# Altium integrated library TE RF and Coax Connectors.IntLib: 4 symbols
Pins are listed as number, name and electrical type; pins without a type are passive.

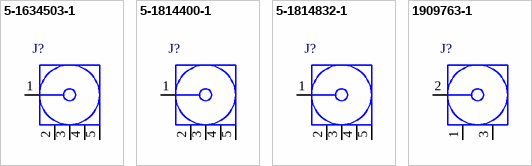
[diagram p0: symbols 5-1634503-1 to 1909763-1]

## 5-1634503-1
designator J?
Female Header, Pitch 3.13 mm, Height 13.7 mm, Tail Length 4.5 mm, -55 to 85 degC, RoHS, Bulk; SVHC: No SVHC (15-Jun-2015); Connector Mounting: PCB Mount; Coaxial Termination: Solder; Frequency Max: 2GHz; Connector Type: BNC Coaxial; Connector Body Style: Straight Jack; Impedance: 50ohm; DatasheetVersion: Rev. E; PackageReference: THD; PackageDescription: Female Header, Pitch 3.13 mm, Height 13.7 mm, Tail Length 4.5 mm; Supplier 1: Digi-Key; Supplier Part Number 1: A97581-ND; Product Range: -; Contact Material: Brass; Contact Plating: Gold Plated Contacts; Coaxial Cable Types: -; Mounting Technology: Through Hole; ComponentLink1Description: Manufacturer URL; ComponentLink1URL: http://www.te.com; ComponentLink2Description: Datasheet; ComponentLink2URL: http://www.mouser.com/ds/2/418/NG_CD_1634503_E-657474.pdf
footprint TE-5-1634503-1_V (THD, 5-Leads，Dia 11mm, Pitch 3.13mm)
pins: 1, 2, 3, 4, 5

## 5-1814400-1
designator J?
SMA Connector, Pitch 5.08 mm, 1 Position, Height 10.43 mm, Tail Length 3.1 mm, -55 to 85 degC, RoHS, Bulk; SVHC: No SVHC (15-Jun-2015); Connector Mounting: PCB Mount; Coaxial Termination: Solder; Frequency Max: 3GHz; Product Range: ZDC Series; Connector Type: SMA Coaxial; Connector Body Style: Right Angle Jack; Impedance: 50ohm; DatasheetVersion: Rev. C1; PackageReference: THD; PackageDescription: SMA Connector, Pitch 5.08 mm, 1 Position, Height 10.43 mm, Tail Length 3.1 mm; Supplier 1: Digi-Key; Supplier Part Number 1: A97593-ND; Contact Material: Beryllium Copper; Contact Plating: Gold Plated Contacts; Coaxial Cable Types: -; Mounting Technology: Through Hole; ComponentLink1Description: Manufacturer URL; ComponentLink1URL: http://www.te.com; ComponentLink2Description: Datasheet; ComponentLink2URL: http://www.onlinecomponents.com/productFiles/mf-AMP/eng_cd_1814400_c1.pdf
footprint TECO-5-1814400-1_V (SMA, 5-Leads, Body 6.3x6.3mm, Pitch 5.08mm)
pins: 1, 2, 3, 4, 5

## 5-1814832-1
designator J?
SMA Connector, Pitch 5.08 mm, 1 Position, Height 9.5 mm, Tail Length 4 mm, -65 to 165 degC, RoHS, Bulk; SVHC: No SVHC (15-Jun-2015); Connector Mounting: PCB Mount; Coaxial Termination: Solder; Frequency Max: 3GHz; Product Range: ZDC Series; Connector Type: SMA Coaxial; Connector Body Style: Straight Jack; Impedance: 50ohm; DatasheetVersion: Rev. B1; PackageReference: THD; PackageDescription: SMA Connector, Pitch 5.08 mm, 1 Position, Height 9.5 mm, Tail Length 4 mm; Supplier 1: Newark; Supplier Part Number 1: 78M7270; Supplier 2: Newark; Supplier Part Number 2: 13M4002; Supplier 3: Farnell; Supplier Part Number 3: 1248990; Supplier 4: Digi-Key; Supplier Part Number 4: A97594-ND; Contact Material: Beryllium Copper; Contact Plating: Gold Plated Contacts; Coaxial Cable Types: -; Mounting Technology: Through Hole; ComponentLink1Description: Manufacturer URL; ComponentLink1URL: http://www.te.com; ComponentLink2Description: Datasheet; ComponentLink2URL: http://www.onlinecomponents.com/productFiles/mf-AMP/eng_cd_1814832_a.pdf
footprint TECO-5-1814832-1_V (THD, 5-Leads, Body 6.4x6.4mm, Pitch 5.08mm)
pins: 1, 2, 3, 4, 5

## 1909763-1
designator J?
Ultra Miniature Coaxial Connector Jack, 60 V, 50 Ohm, -40 to 90 degC, RoHS, Tape and Reel; Brand: TE Connectivity / AMP; Maximum Frequency: 6 GHz; Gender: Jack (Female); Body Material: Liquid Crystal Polymer (LCP); RF Series: UMCC; Impedance: 50 Ohms; DatasheetVersion: Rev. B2; PackageReference: SMD; PackageDescription: 3-Pin Surface Mount Device, Body 2.6 x 2.6 mm; Supplier 1: Newark; Supplier Part Number 1: 62X0488; Supplier 2: Farnell; Supplier Part Number 2: 2781689; Supplier 3: Digi-Key; Supplier Part Number 3: A118077TR-ND; Supplier 4: Digi-Key; Supplier Part Number 4: A118077CT-ND; Supplier 5: Digi-Key; Supplier Part Number 5: A118077DKR-ND; Product Category: RF Connectors / Coaxial Connectors; Packaging: Reel; Product: Connectors; Orientation: Straight; Operating Temperature Range: - 40 C to + 90 C; Factory Pack Quantity: 5000; RoHS: Details; Contact Plating: Gold; Contact Material: Copper Alloy; Mounting Technology: Surface Mount; ComponentLink1Description: Manufacturer URL; ComponentLink1URL: http://www.te.com; ComponentLink2Description: Datasheet; ComponentLink2URL: http://www.te.com/commerce/DocumentDelivery/DDEController?Action=srchrtrv&DocNm=1909763&DocType=Customer+Drawing&DocLang=English
footprint TECO-1909763-1_V (SMD, 3-Leads, Body 2.6x2.6mm, Height 1.25mm)
pins: 1, 2, 3